# Altium schematic symbol library RPSLib_Transistors.SchLib: 17 symbols
Pins are listed as number, name and electrical type; pins without a type are passive.

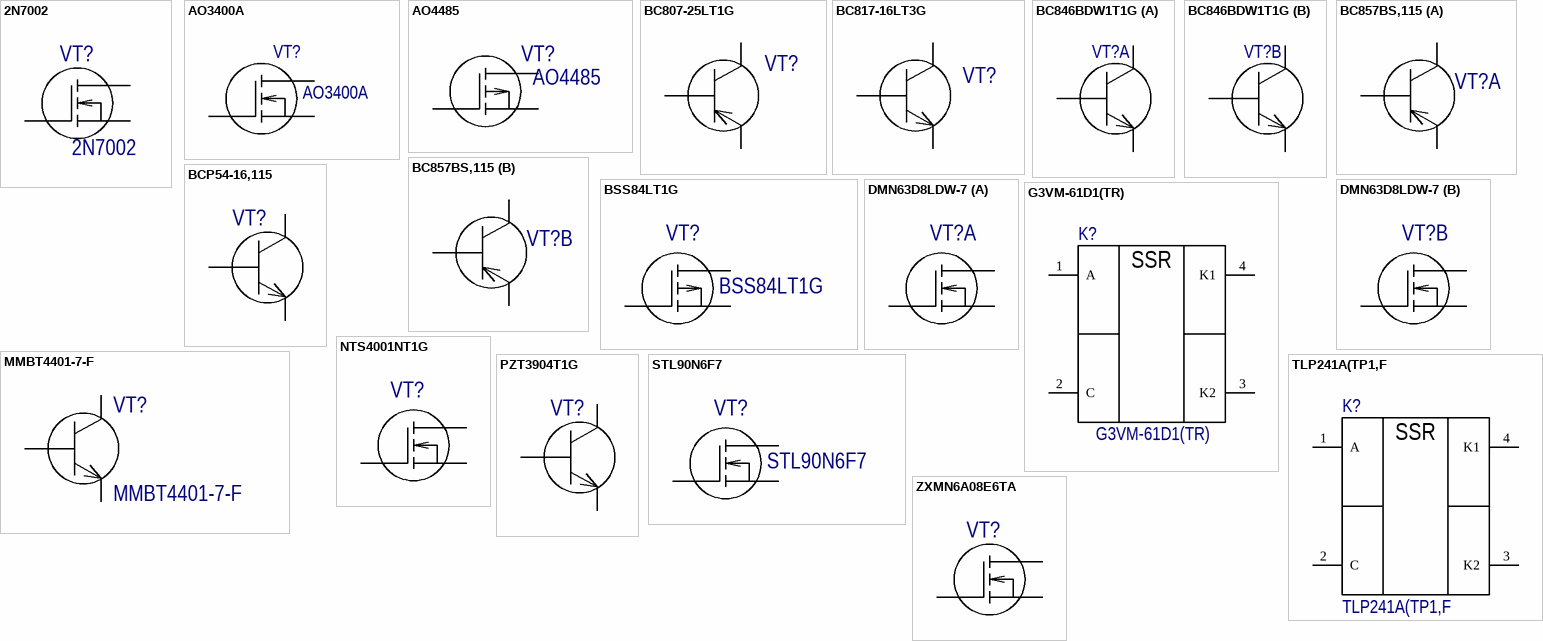
[diagram p0: symbols 2N7002 to ZXMN6A08E6TA]

## 2N7002
designator VT?
2N7002 Series N-Channel 60 V 5 Ohm 0.83 W TrenchMOS FET - SOT-23-3; Manufacturer: Nexperia USA; Manufacturer Part Number: 2N7002,215; Supplier 1: Digi-Key; RoHS: No; Category: MOSFETs; Stock 1: 708507; Pricing 1: 1=0,15000, 10=0,10600, 25=0,10200, 100=0,05750, 500=0,04514, 1000=0,03135 (USD); ComponentLink1URL: https://assets.nexperia.com/documents/data-sheet/2N7002.pdf?src-supplier=Digi-Key; ComponentLink1Description: https://assets.nexperia.com/documents/data-sheet/2N7002.pdf?src-supplier=Digi-Key; ComponentLink2URL: http://www.farnell.com/datasheets/1499179.pdf?src-supplier=Newark; ComponentLink2Description: http://www.farnell.com/datasheets/1499179.pdf?src-supplier=Newark; Supplier Part Number 1: 1727-2764-1-ND
footprint SOT95P232X100-3N (SOT23, 3-Leads, Body 2.92x2.32mm, Pitch 0.95mm, IPC Medium Density)
pins: 1 G, 2 S, 3 D
1 alternate drawing of the same symbol

## AO3400A
designator VT?
MOSFET N-CH 30V 5.7A SOT23-3L; Manufacturer: Alpha & Omega Semiconductor; Rds On Max: 26.5mR; Input Capacitance: 630pF; Max Power Dissipation: 1.4W; Number of Elements: 1; Gate to Source Voltage (Vgs): 12V; Supplier 1: Digi-Key; Manufacturer Part Number: AO3400A; RoHS: Yes; Category: MOSFETs; Stock 1: 144528; Pricing 1: 1=0,48000, 10=0,36200, 100=0,22570, 500=0,15444, 1000=0,11880 (USD); Mount: Surface Mount; Case/Package: TO-236-3; Number of Pins: 3; Min Operating Temperature: -55°C; Max Operating Temperature: 150°C; Packaging: Tape and Reel; Drain to Source Voltage (Vdss): 30V; Continuous Drain Current (ID): 5.7A; Power Dissipation: 1.4W; Series: -; Radiation Hardening: No; Lead Free: Lead Free; RoHS Compliant: Yes; ComponentLink1URL: https://datasheet.ciiva.com/940/ao3400a-940739.pdf?src-supplier=Digi-Key; ComponentLink1Description: https://datasheet.ciiva.com/940/ao3400a-940739.pdf?src-supplier=Digi-Key; ComponentLink2URL: https://datasheet.ciiva.com/26906/getdatasheetpartid-64438-26906526.pdf?src-supplier=Verical; ComponentLink2Description: https://datasheet.ciiva.com/26906/getdatasheetpartid-64438-26906526.pdf?src-supplier=Verical; ComponentLink3URL: https://datasheet.ciiva.com/940/ao3400a-940740.pdf?src-supplier=Digi-Key; ComponentLink3Description: https://datasheet.ciiva.com/940/ao3400a-940740.pdf?src-supplier=Digi-Key; ComponentLink4URL: https://datasheet.ciiva.com/940/ao3400a-940741.pdf?src-supplier=Digi-Key; ComponentLink4Description: https://datasheet.ciiva.com/940/ao3400a-940741.pdf?src-supplier=Digi-Key; Supplier Part Number 1: 785-1000-1-ND
footprint SOT95P232X100-3N (SOT23, 3-Leads, Body 2.92x2.32mm, Pitch 0.95mm, IPC Medium Density)
pins: 1 G, 2 S, 3 D
1 alternate drawing of the same symbol

## AO4485
designator VT?
MOSFET P-CH 40V 10A 8SOIC; Manufacturer: Alpha & Omega Semiconductor; Rds On Max: 15mR; Input Capacitance: 3nF; Max Power Dissipation: 1.7W; Gate to Source Voltage (Vgs): 20V; Number of Elements: 1; Supplier 1: LCSC; Manufacturer Part Number: AO4485; RoHS: Yes; Category: MOSFETs; Mount: Surface Mount; Case/Package: SOIC; Number of Pins: 8; Min Operating Temperature: -55°C; Max Operating Temperature: 150°C; Drain to Source Voltage (Vdss): 40V; Continuous Drain Current (ID): 10A; Packaging: Cut Tape; Package Quantity: 1; Power Dissipation: 1.7W; Radiation Hardening: No; RoHS Compliant: Yes; Lead Free: Lead Free; ComponentLink1URL: https://datasheet.ciiva.com/6367/ao4485-6367585.pdf?src-supplier=Digi-Key; ComponentLink1Description: https://datasheet.ciiva.com/6367/ao4485-6367585.pdf?src-supplier=Digi-Key; ComponentLink2URL: https://datasheet.ciiva.com/26861/getdatasheetpartid-417133-26861485.pdf?src-supplier=Verical; ComponentLink2Description: https://datasheet.ciiva.com/26861/getdatasheetpartid-417133-26861485.pdf?src-supplier=Verical; Supplier Part Number 1: C51499
footprint SOIC127P600X175-AO4485 (SOIC, 8-Leads, Body 4.90x3.90mm, Pitch 1.27mm, IPC Medium Density)
pins: D, G, S
1 alternate drawing of the same symbol

## BC807-25LT1G
designator VT?  (value not drawn)
ON SEMICONDUCTOR - BC807-25LT1G - Bipolar (BJT) Single Transistor, PNP, -45 V, 100 MHz, 225 mW, -500 mA, 160 hFE; Collector Emitter Voltage (VCEO): 45V; Max Power Dissipation: 300mW; Max Collector Current: 500mA; Emitter Base Voltage (VEBO): 5V; Collector Base Voltage (VCBO): 50V; Transition Frequency: 100MHz; Number of Elements: 1; hFE Min: 160; Collector Emitter Saturation Voltage: -700mV; Collector-emitter Voltage-Max: 700mV; Type: General Purpose; Supplier 1: Digi-Key; Manufacturer: ON Semiconductor; Manufacturer Part Number: BC807-25LT1G; RoHS: Yes; Category: BJTs; Stock 1: 9099; Pricing 1: 1=0,15000, 10=0,10700, 25=0,10240, 100=0,05780, 500=0,04536, 1000=0,03150 (USD); Case/Package: SOT-23-3; Number of Pins: 3; Contact Plating: Tin,Matte; Min Operating Temperature: -55°C; Max Operating Temperature: 150°C; Polarity: PNP; Packaging: Tape and Reel; Package Quantity: 1; Collector Emitter Breakdown Voltage: 45V; Element Configuration: Single; Power Dissipation: 300mW; Gain Bandwidth Product: 100MHz; Frequency: 100MHz; Max Breakdown Voltage: 45V; Series: -; Max Frequency: 100MHz; Moisture Sensitivity Level: 1; Length: 2.9mm; Width: 1.3mm; Height: 0.94mm; Radiation Hardening: No; RoHS Compliant: Yes; Lead Free: Lead Free; REACH SVHC: No SVHC; Halogen Free: Halogen Free; ComponentLink1URL: https://datasheet.ciiva.com/15138/getdatasheetpartid-32011-15138578.pdf?src-supplier=Verical; ComponentLink1Description: https://datasheet.ciiva.com/15138/getdatasheetpartid-32011-15138578.pdf?src-supplier=Verical; ComponentLink2URL: https://datasheet.ciiva.com/11197/bc807-16lt1-d-11197830.pdf?src-supplier=Avnet; ComponentLink2Description: https://datasheet.ciiva.com/11197/bc807-16lt1-d-11197830.pdf?src-supplier=Avnet; ComponentLink3URL: https://datasheet.ciiva.com/16205/bc807-16lt1-d-16205062.pdf?src-supplier=Future+Electronics; ComponentLink3Description: https://datasheet.ciiva.com/16205/bc807-16lt1-d-16205062.pdf?src-supplier=Future+Electronics; ComponentLink4URL: https://datasheet.ciiva.com/976/bc807-16lt1-d-976425.pdf?src-supplier=Digi-Key; ComponentLink4Description: https://datasheet.ciiva.com/976/bc807-16lt1-d-976425.pdf?src-supplier=Digi-Key; ComponentLink5URL: https://datasheet.ciiva.com/7972/bc807-16lt1-d-7972185.pdf?src-supplier=Element14; ComponentLink5Description: https://datasheet.ciiva.com/7972/bc807-16lt1-d-7972185.pdf?src-supplier=Element14; ComponentLink6URL: https://datasheet.ciiva.com/976/bc807-16lt1-d-976426.pdf?src-supplier=Digi-Key; ComponentLink6Description: https://datasheet.ciiva.com/976/bc807-16lt1-d-976426.pdf?src-supplier=Digi-Key; ComponentLink7URL: https://datasheet.ciiva.com/976/bc807-16lt1-d-976427.pdf?src-supplier=Digi-Key; ComponentLink7Description: https://datasheet.ciiva.com/976/bc807-16lt1-d-976427.pdf?src-supplier=Digi-Key; ComponentLink8URL: https://datasheet.ciiva.com/5720/bc807-16lt1-d-5720171.pdf?src-supplier=Farnell; ComponentLink8Description: https://datasheet.ciiva.com/5720/bc807-16lt1-d-5720171.pdf?src-supplier=Farnell; ComponentLink9URL: https://datasheet.ciiva.com/11197/bc807-16lt1-d-11197499.pdf?src-supplier=Avnet; ComponentLink9Description: https://datasheet.ciiva.com/11197/bc807-16lt1-d-11197499.pdf?src-supplier=Avnet; ComponentLink10URL: https://datasheet.ciiva.com/16478/bc807-16lt1-d-16478907.pdf?src-supplier=Avnet+Asia; ComponentLink10Description: https://datasheet.ciiva.com/16478/bc807-16lt1-d-16478907.pdf?src-supplier=Avnet+Asia; ComponentLink11URL: https://datasheet.ciiva.com/25917/bc807-16lt1-d-25917180.pdf?src-supplier=Avnet+Europe; ComponentLink11Description: https://datasheet.ciiva.com/25917/bc807-16lt1-d-25917180.pdf?src-supplier=Avnet+Europe; ComponentLink12URL: https://datasheet.ciiva.com/4722/bc807-16lt1-d-106678-4722830.pdf?src-supplier=Mouser; ComponentLink12Description: https://datasheet.ciiva.com/4722/bc807-16lt1-d-106678-4722830.pdf?src-supplier=Mouser; Supplier Part Number 1: BC807-25LT1GOSCT-ND
footprint SOT95P232X100-3N (SOT23, 3-Leads, Body 2.92x2.32mm, Pitch 0.95mm, IPC Medium Density)
pins: 1 B, 2 E, 3 C

## BC817-16LT3G
designator VT?  (value not drawn)
TRANS NPN 45V 0.5A SOT-23; Manufacturer: ON Semiconductor; hFE Min: 100; Max Power Dissipation: 300mW; Element Configuration: Single; Max Collector Current: 500mA; Transition Frequency: 100MHz; Collector Base Voltage (VCBO): 50V; Emitter Base Voltage (VEBO): 5V; Collector Emitter Saturation Voltage: 700mV; Number of Elements: 1; Supplier 1: Digi-Key; Manufacturer Part Number: BC817-16LT3G; RoHS: Yes; Category: BJTs; Stock 1: 34572; Pricing 1: 1=0,14000, 10=0,13000, 25=0,12360, 100=0,05450, 250=0,05228, 500=0,04276, 1000=0,02970, 2500=0,02594, 5000=0,02327 (USD); Case/Package: SOT-23-3; Number of Pins: 3; Contact Plating: Tin,Matte; Min Operating Temperature: -55°C; Max Operating Temperature: 150°C; Package Quantity: 10000; Collector Emitter Voltage (VCEO): 45V; Collector Emitter Breakdown Voltage: 45V; Polarity: NPN; Packaging: Tape and Reel; Power Dissipation: 300mW; Frequency: 100MHz; Gain Bandwidth Product: 100MHz; Max Breakdown Voltage: 45V; Radiation Hardening: No; Lead Free: Lead Free; Halogen Free: Halogen Free; ComponentLink1URL: https://datasheet.ciiva.com/15139/getdatasheetpartid-84401-15139109.pdf?src-supplier=Verical; ComponentLink1Description: https://datasheet.ciiva.com/15139/getdatasheetpartid-84401-15139109.pdf?src-supplier=Verical; ComponentLink2URL: https://datasheet.ciiva.com/26115/bc817-16lt1-d-26115598.pdf?src-supplier=Avnet+Europe; ComponentLink2Description: https://datasheet.ciiva.com/26115/bc817-16lt1-d-26115598.pdf?src-supplier=Avnet+Europe; ComponentLink3URL: https://datasheet.ciiva.com/980/bc817-16lt1-d-980715.pdf?src-supplier=Digi-Key; ComponentLink3Description: https://datasheet.ciiva.com/980/bc817-16lt1-d-980715.pdf?src-supplier=Digi-Key; ComponentLink4URL: https://datasheet.ciiva.com/11204/bc817-16lt1-d-11204335.pdf?src-supplier=Avnet; ComponentLink4Description: https://datasheet.ciiva.com/11204/bc817-16lt1-d-11204335.pdf?src-supplier=Avnet; Supplier Part Number 1: BC817-16LT3GOSCT-ND
footprint SOT95P232X100-3N (SOT23, 3-Leads, Body 2.92x2.32mm, Pitch 0.95mm, IPC Medium Density)
pins: 1 B, 2 E, 3 C

## BC846BDW1T1G
designator VT?  (value not drawn)
ON Semi BC846BDW1T1G Dual NPN Bipolar Transistor; 0.1 A; 65 V; 6-Pin SC-88; Manufacturer: ON Semiconductor; Collector Emitter Voltage (VCEO): 65V; Max Power Dissipation: 380mW; Max Collector Current: 100mA; Collector Base Voltage (VCBO): 80V; Frequency: 100MHz; Number of Elements: 2; hFE Min: 200; Emitter Base Voltage (VEBO): 6V; Collector Emitter Saturation Voltage: 600mV; Supplier 1: Digi-Key; Manufacturer Part Number: BC846BDW1T1G; RoHS: Yes; Category: BJTs; Stock 1: 149171; Pricing 1: 1=0,29000, 10=0,23700, 100=0,12570, 500=0,08268, 1000=0,05622 (USD); Case/Package: SOT-363-6; Number of Pins: 6; Contact Plating: Tin,Matte; Min Operating Temperature: -55°C; Max Operating Temperature: 150°C; Package Quantity: 1; Packaging: Tape and Reel; Transition Frequency: 100MHz; Collector Emitter Breakdown Voltage: 65V; Polarity: NPN; Max Breakdown Voltage: 65V; Power Dissipation: 380mW; Element Configuration: Dual; Gain Bandwidth Product: 100MHz; Max Frequency: 100MHz; Voltage Rating (DC): 65V; Current Rating: 100mA; Length: 2mm; Width: 1.25mm; Height: 0.9mm; Radiation Hardening: No; REACH SVHC: No SVHC; Lead Free: Lead Free; Halogen Free: Halogen Free; ComponentLink1URL: https://datasheet.ciiva.com/968/bc846bdw1t1-d-968800.pdf?src-supplier=Digi-Key; ComponentLink1Description: https://datasheet.ciiva.com/968/bc846bdw1t1-d-968800.pdf?src-supplier=Digi-Key; ComponentLink2URL: https://datasheet.ciiva.com/15138/getdatasheetpartid-53817-15138804.pdf?src-supplier=Verical; ComponentLink2Description: https://datasheet.ciiva.com/15138/getdatasheetpartid-53817-15138804.pdf?src-supplier=Verical; ComponentLink3URL: https://datasheet.ciiva.com/17064/0900766b80dabb08-17064908.pdf?src-supplier=Allied+Electronics; ComponentLink3Description: https://datasheet.ciiva.com/17064/0900766b80dabb08-17064908.pdf?src-supplier=Allied+Electronics; ComponentLink4URL: https://datasheet.ciiva.com/968/bc846bdw1t1-d-968801.pdf?src-supplier=Digi-Key; ComponentLink4Description: https://datasheet.ciiva.com/968/bc846bdw1t1-d-968801.pdf?src-supplier=Digi-Key; ComponentLink5URL: https://datasheet.ciiva.com/11197/bc846bdw1t1-d-11197781.pdf?src-supplier=Avnet; ComponentLink5Description: https://datasheet.ciiva.com/11197/bc846bdw1t1-d-11197781.pdf?src-supplier=Avnet; ComponentLink6URL: https://datasheet.ciiva.com/1193/bc846bdw1t1-d-1193751.pdf?src-supplier=Element14; ComponentLink6Description: https://datasheet.ciiva.com/1193/bc846bdw1t1-d-1193751.pdf?src-supplier=Element14; ComponentLink7URL: https://datasheet.ciiva.com/22653/1708249-22653899.pdf?src-supplier=Element14; ComponentLink7Description: https://datasheet.ciiva.com/22653/1708249-22653899.pdf?src-supplier=Element14; ComponentLink8URL: https://datasheet.ciiva.com/16418/bc846bdw1t1-d-16418524.pdf?src-supplier=Future+Electronics; ComponentLink8Description: https://datasheet.ciiva.com/16418/bc846bdw1t1-d-16418524.pdf?src-supplier=Future+Electronics; ComponentLink9URL: https://datasheet.ciiva.com/43505/2012179-43505580.pdf?src-supplier=Jameco; ComponentLink9Description: https://datasheet.ciiva.com/43505/2012179-43505580.pdf?src-supplier=Jameco; ComponentLink10URL: https://datasheet.ciiva.com/968/bc846bdw1t1-d-968799.pdf?src-supplier=Digi-Key; ComponentLink10Description: https://datasheet.ciiva.com/968/bc846bdw1t1-d-968799.pdf?src-supplier=Digi-Key; Supplier Part Number 1: BC846BDW1T1GOSCT-ND
footprint SOT65P210X110-6N (SOT23, 6-Leads, Body 2,00x2,10mm, Pitch 0,65mm, IPC Medium Density)
part A pins: 3 C1, 4 E1, 5 B1
part B pins: 1 E2, 2 B2, 6 C2

## BC857BS,115
designator VT?, comment BC857BS  (value not drawn)
NEXPERIA - BC857BS,115 - TRANSISTOR, DUAL, PNP, SC-88; Collector Emitter Voltage (VCEO): 45V; Supplier 1: Digi-Key; Manufacturer: NEXPERIA; Manufacturer Part Number: BC857BS,115; RoHS: No; Category: BJTs; Stock 1: 74846; Pricing 1: 1=0,19000, 10=0,13400, 25=0,13320, 100=0,06520, 500=0,05438, 1000=0,03779 (USD); Case/Package: SC; Polarity: PNP; Packaging: Tape and Reel; REACH SVHC: No SVHC; Lead Free: Lead Free; ComponentLink1URL: http://www.farnell.com/datasheets/708560.pdf?src-supplier=Farnell; ComponentLink1Description: http://www.farnell.com/datasheets/708560.pdf?src-supplier=Farnell; Supplier Part Number 1: 1727-4868-1-ND
footprint SOT65P210X110-6N (SOT23, 6-Leads, Body 2,00x2,10mm, Pitch 0,65mm, IPC Medium Density)
part A pins: 1 E1, 2 B1, 6 C1
part B pins: 3 C2, 4 E2, 5 B2

## BCP54-16,115
designator VT?  (value not drawn)
NEXPERIA - BCP54-16,115 - TRANSISTOR, NPN, SOT-223; Supplier 1: Digi-Key; Manufacturer: Nexperia; Manufacturer Part Number: BCP54-16,115; RoHS: No; Stock 1: 4494; Pricing 1: 1=0,45000, 10=0,33600, 25=0,30240, 100=0,15950, 250=0,15784, 500=0,14136 (USD); ComponentLink1URL: http://www.farnell.com/datasheets/1499221.pdf?src-supplier=Farnell; ComponentLink1Description: http://www.farnell.com/datasheets/1499221.pdf?src-supplier=Farnell; Supplier Part Number 1: 1727-4314-1-ND
footprint SOT230P700X180-4N PZT3904 (SOT223, 4-Leads, Body 6,50x7,00mm (avg), Pitch 2,30mm, IPC Medium Density)
pins: 1 B, 2 C, 3 E

## BSS84LT1G
designator VT?
On a Reel of 3000, P-Channel MOSFET, 130 mA, 50 V, 3-Pin SOT-23 ON Semiconductor BSS84LT1G; Continuous Drain Current (ID): 130mA; Gate to Source Voltage (Vgs): 20V; Input Capacitance: 30pF; Max Power Dissipation: 225mW; Rds On Max: 10R; Drain to Source Voltage (Vdss): 50V; Turn-Off Delay Time: 16ns; Turn-On Delay Time: 3.6ns; Number of Elements: 1; Rise Time: 1ns; Element Configuration: Single; Current Rating: -130mA; Voltage Rating (DC): -50V; Threshold Voltage: -2V; Nominal Vgs: 2V; Supplier 1: Digi-Key; Manufacturer: ON Semiconductor; Manufacturer Part Number: BSS84LT1G; RoHS: Yes; Category: MOSFETs; Stock 1: 372844; Pricing 1: 1=0,28000, 10=0,19500, 25=0,19440, 100=0,09500, 500=0,07928, 1000=0,05508 (USD); Case/Package: SOT-23-3; Number of Pins: 3; Contact Plating: Tin,Matte; Min Operating Temperature: -55°C; Max Operating Temperature: 150°C; Packaging: Tape and Reel; Power Dissipation: 225mW; Package Quantity: 1; Drain to Source Resistance: 10R; Drain to Source Breakdown Voltage: 50V; Fall Time: 1ns; On-State Resistance: 10R; Length: 0.119inch; Width: 0.055inch; Height: 0.04inch; Radiation Hardening: No; Lead Free: Lead Free; REACH SVHC: No SVHC; Halogen Free: Halogen Free; ComponentLink1URL: https://datasheet.ciiva.com/1190/86068-1190258.pdf?src-supplier=Element14; ComponentLink1Description: https://datasheet.ciiva.com/1190/86068-1190258.pdf?src-supplier=Element14; ComponentLink2URL: https://datasheet.ciiva.com/1255/1747989-1255091.pdf?src-supplier=Newark; ComponentLink2Description: https://datasheet.ciiva.com/1255/1747989-1255091.pdf?src-supplier=Newark; ComponentLink3URL: https://datasheet.ciiva.com/15198/getdatasheetpartid-86905-15198910.pdf?src-supplier=Verical; ComponentLink3Description: https://datasheet.ciiva.com/15198/getdatasheetpartid-86905-15198910.pdf?src-supplier=Verical; ComponentLink4URL: https://datasheet.ciiva.com/1190/86068-1190259.pdf?src-supplier=Element14; ComponentLink4Description: https://datasheet.ciiva.com/1190/86068-1190259.pdf?src-supplier=Element14; ComponentLink5URL: https://datasheet.ciiva.com/27054/1920992-27054773.pdf?src-supplier=Jameco; ComponentLink5Description: https://datasheet.ciiva.com/27054/1920992-27054773.pdf?src-supplier=Jameco; ComponentLink6URL: https://datasheet.ciiva.com/26146/bss84lt1-d-26146231.pdf?src-supplier=Avnet+Europe; ComponentLink6Description: https://datasheet.ciiva.com/26146/bss84lt1-d-26146231.pdf?src-supplier=Avnet+Europe; ComponentLink7URL: https://datasheet.ciiva.com/16335/bss84lt1-d-16335336.pdf?src-supplier=Future+Electronics; ComponentLink7Description: https://datasheet.ciiva.com/16335/bss84lt1-d-16335336.pdf?src-supplier=Future+Electronics; ComponentLink8URL: https://datasheet.ciiva.com/6380/bss84lt1-d-6380649.pdf?src-supplier=Digi-Key; ComponentLink8Description: https://datasheet.ciiva.com/6380/bss84lt1-d-6380649.pdf?src-supplier=Digi-Key; ComponentLink9URL: https://datasheet.ciiva.com/11168/bss84lt1-d-11168266.pdf?src-supplier=Avnet; ComponentLink9Description: https://datasheet.ciiva.com/11168/bss84lt1-d-11168266.pdf?src-supplier=Avnet; ComponentLink10URL: https://datasheet.ciiva.com/6380/bss84lt1-d-6380651.pdf?src-supplier=Digi-Key; ComponentLink10Description: https://datasheet.ciiva.com/6380/bss84lt1-d-6380651.pdf?src-supplier=Digi-Key; ComponentLink11URL: https://datasheet.ciiva.com/6380/bss84lt1-d-6380652.pdf?src-supplier=Digi-Key; ComponentLink11Description: https://datasheet.ciiva.com/6380/bss84lt1-d-6380652.pdf?src-supplier=Digi-Key; ComponentLink12URL: https://datasheet.ciiva.com/8115/bss84lt1-d-8115421.pdf?src-supplier=Avnet; ComponentLink12Description: https://datasheet.ciiva.com/8115/bss84lt1-d-8115421.pdf?src-supplier=Avnet; Supplier Part Number 1: BSS84LT1GOSCT-ND
footprint SOT95P232X100-3N (SOT23, 3-Leads, Body 2.92x2.32mm, Pitch 0.95mm, IPC Medium Density)
pins: 1 G, 2 S, 3 D
1 alternate drawing of the same symbol

## DMN63D8LDW-7
designator VT?  (value not drawn)
MOSFET 2N-CH 30V 0.22A SOT363; Manufacturer: Diodes; Rise Time: 3.2ns; Rds On Max: 2.8R; Input Capacitance: 22pF; Continuous Drain Current (ID): 260mA; Max Power Dissipation: 300mW; Turn-On Delay Time: 3.3ns; Turn-Off Delay Time: 12ns; Fall Time: 6.3ns; Number of Elements: 2; Power Dissipation: 400mW; Threshold Voltage: 1.5V; Gate to Source Voltage (Vgs): 20V; Element Configuration: Dual; FET Type: 2 N-Channel; Supplier 1: Digi-Key; Manufacturer Part Number: DMN63D8LDW-7; RoHS: Yes; Category: MOSFETs; Stock 1: 258650; Pricing 1: 1=0,31000, 10=0,25000, 100=0,10250, 500=0,08552, 1000=0,05942 (USD); Mount: Surface Mount; Case/Package: SOT-363; Number of Pins: 6; Weight: 0.000212oz; Contact Plating: Tin,Matte; Min Operating Temperature: -55°C; Max Operating Temperature: 150°C; Package Quantity: 3000; Packaging: Tape and Reel; Drain to Source Voltage (Vdss): 30V; Drain to Source Resistance: 2.8R; Number of Channels: 2; Drain to Source Breakdown Voltage: 30V; Length: 2.2mm; Height: 1mm; Width: 1.35mm; Radiation Hardening: No; REACH SVHC: No SVHC; Lead Free: Lead Free; ComponentLink1URL: https://datasheet.ciiva.com/30023/dmn63d8ldw-30023824.pdf?src-supplier=Avnet; ComponentLink1Description: https://datasheet.ciiva.com/30023/dmn63d8ldw-30023824.pdf?src-supplier=Avnet; ComponentLink2URL: https://datasheet.ciiva.com/6384/dmn63d8ldw-6384534.pdf?src-supplier=Digi-Key; ComponentLink2Description: https://datasheet.ciiva.com/6384/dmn63d8ldw-6384534.pdf?src-supplier=Digi-Key; Supplier Part Number 1: DMN63D8LDW-7CT-ND
footprint SOT65P210X100-6N (SOT23, 6-Leads, Body 2,00x2,10mm, Pitch 0,65mm, IPC Medium Density)
part A pins: 1 S1, 2 G1, 6 D1
part B pins: 3 D2, 4 S2, 5 G2
1 alternate drawing of the same symbol

## G3VM-61D1(TR)
designator K?
RELAY SSR SPST 60V 500MA 4SMD; Manufacturer: Omron; Supplier 1: Digi-Key; Manufacturer Part Number: G3VM-61D1(TR); RoHS: Yes; Category: Solid State Relays; Pricing 1: 1=2,62000, 10=2,45800, 25=2,18480, 50=2,07540, 100=1,96620, 250=1,74772, 500=1,63848 (USD); ComponentLink1URL: https://datasheet.ciiva.com/2422/g3vm-61a1-d1-1210-2422488.pdf?src-supplier=Digi-Key; ComponentLink1Description: https://datasheet.ciiva.com/2422/g3vm-61a1-d1-1210-2422488.pdf?src-supplier=Digi-Key; Supplier Part Number 1: Z5359CT-ND; Supplier 2: LCSC; Supplier Part Number 2: C469131
footprint DIP-4 SSR (Footprint not found)
pins: 1 A, 2 C, 3 K2, 4 K1
text: SSR

## MMBT4401-7-F
designator VT?
TRANS NPN 40V 0.6A SMD SOT23-3; Manufacturer: Diodes; Max Power Dissipation: 300mW; Max Collector Current: 600mA; Collector Base Voltage (VCBO): 60V; Frequency: 250MHz; hFE Min: 100; Number of Elements: 1; Emitter Base Voltage (VEBO): 6V; Collector Emitter Saturation Voltage: 750mV; Power Dissipation: 310mW; Element Configuration: Single; Supplier 1: Digi-Key; Manufacturer Part Number: MMBT4401-7-F; Stock 1: 416046; Pricing 1: 1=0.15, 10=0.134, 100=0.0729, 500=0.04486, 1000=0.03059 (USD); Mount: Surface Mount; Case/Package: SOT-23; Number of Pins: 3; Weight: 0.000282oz; Contact Plating: Matte,Tin; Min Operating Temperature: -55°C; Max Operating Temperature: 150°C; Collector Emitter Voltage (VCEO): 40V; Polarity: NPN; Packaging: Tape and Reel; Package Quantity: 3000; Transition Frequency: 250MHz; Collector Emitter Breakdown Voltage: 40V; Max Breakdown Voltage: 40V; Continuous Collector Current: 600mA; Max Frequency: 250MHz; Gain Bandwidth Product: 250MHz; Voltage Rating (DC): 40V; Length: 3.05mm; Height: 1mm; Width: 1.4mm; Radiation Hardening: No; REACH SVHC: No SVHC; Lead Free: Lead Free; Supplier Part Number 1: MMBT4401-FDICT-ND; РКД Наименование: *
footprint SOT95P232X100-3N (SOT23, 3-Leads, Body 2.92x2.32mm, Pitch 0.95mm, IPC Medium Density)
pins: 1 B, 2 E, 3 C

## NTS4001NT1G
designator VT?  (value not drawn)
MOSFET N-CH 30V 270MA SOT-323; Manufacturer: ON Semiconductor; Nominal Vgs: 1.2V; Input Capacitance: 33pF; Number of Elements: 1; Max Power Dissipation: 330mW; Rise Time: 23ns; Rds On Max: 1.5R; Turn-Off Delay Time: 94ns; Turn-On Delay Time: 17ns; Element Configuration: Single; Gate to Source Voltage (Vgs): 20V; On-State Resistance: 1R; Supplier 1: Digi-Key; Manufacturer Part Number: NTS4001NT1G; RoHS: Yes; Category: MOSFETs; Stock 1: 199118; Pricing 1: 1=0,39000, 10=0,31600, 100=0,12920, 500=0,10776, 1000=0,07487 (USD); Case/Package: SC; Number of Pins: 3; Contact Plating: Tin,Matte; Min Operating Temperature: -55°C; Max Operating Temperature: 150°C; Package Quantity: 3000; Packaging: Tape and Reel; Continuous Drain Current (ID): 270mA; Drain to Source Breakdown Voltage: 30V; Fall Time: 23ns; Power Dissipation: 330mW; Drain to Source Resistance: 1.5R; Threshold Voltage: 1.2V; Voltage Rating (DC): 30V; Current Rating: 270mA; Length: 2.2mm; Height: 0.9mm; Width: 1.35mm; Radiation Hardening: No; REACH SVHC: No SVHC; Lead Free: Lead Free; ComponentLink1URL: https://datasheet.ciiva.com/30479/0900766b81206072-30479665.pdf?src-supplier=RSComponents; ComponentLink1Description: https://datasheet.ciiva.com/30479/0900766b81206072-30479665.pdf?src-supplier=RSComponents; ComponentLink2URL: https://datasheet.ciiva.com/26145/nts4001n-d-26145698.pdf?src-supplier=Avnet+Europe; ComponentLink2Description: https://datasheet.ciiva.com/26145/nts4001n-d-26145698.pdf?src-supplier=Avnet+Europe; ComponentLink3URL: https://datasheet.ciiva.com/23868/86002-23868099.pdf?src-supplier=Newark; ComponentLink3Description: https://datasheet.ciiva.com/23868/86002-23868099.pdf?src-supplier=Newark; ComponentLink4URL: https://datasheet.ciiva.com/11168/nts4001n-d-11168198.pdf?src-supplier=Avnet; ComponentLink4Description: https://datasheet.ciiva.com/11168/nts4001n-d-11168198.pdf?src-supplier=Avnet; ComponentLink5URL: https://datasheet.ciiva.com/30479/0900766b81206072-30479659.pdf?src-supplier=RSComponents; ComponentLink5Description: https://datasheet.ciiva.com/30479/0900766b81206072-30479659.pdf?src-supplier=RSComponents; ComponentLink6URL: https://datasheet.ciiva.com/13060/nts4001n-d-98833-13060653.pdf?src-supplier=Mouser; ComponentLink6Description: https://datasheet.ciiva.com/13060/nts4001n-d-98833-13060653.pdf?src-supplier=Mouser; ComponentLink7URL: https://datasheet.ciiva.com/8059/86002-8059418.pdf?src-supplier=Element14; ComponentLink7Description: https://datasheet.ciiva.com/8059/86002-8059418.pdf?src-supplier=Element14; ComponentLink8URL: https://datasheet.ciiva.com/936/nts4001n-d-936827.pdf?src-supplier=Digi-Key; ComponentLink8Description: https://datasheet.ciiva.com/936/nts4001n-d-936827.pdf?src-supplier=Digi-Key; ComponentLink9URL: https://datasheet.ciiva.com/8059/86002-8059419.pdf?src-supplier=Element14; ComponentLink9Description: https://datasheet.ciiva.com/8059/86002-8059419.pdf?src-supplier=Element14; Supplier Part Number 1: NTS4001NT1GOSCT-ND
footprint SOT65P220X100-3N (SOT23, 3-Leads, Body 2,00x2,20mm, Pitch 0,65mm, IPC Medium Density)
pins: 1 G, 2 S, 3 D
1 alternate drawing of the same symbol

## PZT3904T1G
designator VT?  (value not drawn)
Trans GP BJT NPN 40V 0.2A Automotive 4-Pin(3+Tab) SOT-223 T/R; Manufacturer: ON Semiconductor; Max Power Dissipation: 1.5W; Max Collector Current: 200mA; Transition Frequency: 300MHz; Collector Base Voltage (VCBO): 60V; Emitter Base Voltage (VEBO): 6V; Collector Emitter Saturation Voltage: 300mV; Element Configuration: Single; Number of Elements: 1; hFE Min: 40; Supplier 1: Digi-Key; Manufacturer Part Number: PZT3904T1G; RoHS: Yes; Category: BJTs; Stock 1: 11607; Pricing 1: 1=0,43000, 10=0,32300, 25=0,29080, 100=0,15340, 250=0,15184, 500=0,13596 (USD); Case/Package: SOT-223-4; Number of Pins: 4; Contact Plating: Tin,Matte; Min Operating Temperature: -55°C; Max Operating Temperature: 150°C; Collector Emitter Voltage (VCEO): 40V; Packaging: Tape and Reel; Package Quantity: 1; Polarity: NPN; Collector Emitter Breakdown Voltage: 40V; Gain Bandwidth Product: 300MHz; Voltage Rating (DC): 40V; Current Rating: 200mA; Frequency: 300MHz; Max Breakdown Voltage: 40V; Power Dissipation: 1.5W; Max Frequency: 300MHz; Length: 6.7mm; Height: 1.65mm; Width: 3.7mm; Radiation Hardening: No; Lead Free: Lead Free; REACH SVHC: No SVHC; ComponentLink1URL: https://datasheet.ciiva.com/976/pzt3904t1-d-976720.pdf?src-supplier=Digi-Key; ComponentLink1Description: https://datasheet.ciiva.com/976/pzt3904t1-d-976720.pdf?src-supplier=Digi-Key; ComponentLink2URL: https://datasheet.ciiva.com/11197/pzt3904t1-d-11197712.pdf?src-supplier=Avnet; ComponentLink2Description: https://datasheet.ciiva.com/11197/pzt3904t1-d-11197712.pdf?src-supplier=Avnet; ComponentLink3URL: https://datasheet.ciiva.com/30480/0900766b8127cb0f-30480711.pdf?src-supplier=RSComponents; ComponentLink3Description: https://datasheet.ciiva.com/30480/0900766b8127cb0f-30480711.pdf?src-supplier=RSComponents; ComponentLink4URL: https://datasheet.ciiva.com/15139/getdatasheetpartid-140997-15139465.pdf?src-supplier=Verical; ComponentLink4Description: https://datasheet.ciiva.com/15139/getdatasheetpartid-140997-15139465.pdf?src-supplier=Verical; ComponentLink5URL: https://datasheet.ciiva.com/25997/pzt3904t1-d-25997621.pdf?src-supplier=Avnet+Europe; ComponentLink5Description: https://datasheet.ciiva.com/25997/pzt3904t1-d-25997621.pdf?src-supplier=Avnet+Europe; ComponentLink6URL: https://datasheet.ciiva.com/11201/pzt3904t1-d-11201548.pdf?src-supplier=Avnet; ComponentLink6Description: https://datasheet.ciiva.com/11201/pzt3904t1-d-11201548.pdf?src-supplier=Avnet; ComponentLink7URL: https://datasheet.ciiva.com/16479/pzt3904t1-d-16479932.pdf?src-supplier=Future+Electronics; ComponentLink7Description: https://datasheet.ciiva.com/16479/pzt3904t1-d-16479932.pdf?src-supplier=Future+Electronics; ComponentLink8URL: https://datasheet.ciiva.com/4721/pzt3904t1-d-100851-4721821.pdf?src-supplier=Mouser; ComponentLink8Description: https://datasheet.ciiva.com/4721/pzt3904t1-d-100851-4721821.pdf?src-supplier=Mouser; Supplier Part Number 1: PZT3904T1GOSCT-ND
footprint SOT230P700X180-4N PZT3904 (SOT223, 4-Leads, Body 6,50x7,00mm (avg), Pitch 2,30mm, IPC Medium Density)
pins: 1 B, 2 C, 3 E

## STL90N6F7
designator VT?
MOSFET N-CH 60V 90A F7 8PWRFLAT; Manufacturer: STMicroelectronics; Rds On Max: 5.4mR; Input Capacitance: 1.6nF; Max Power Dissipation: 94W; Supplier 1: Digi-Key; Manufacturer Part Number: STL90N6F7; RoHS: Yes; Category: MOSFETs; Stock 1: 5700; Pricing 1: 1=1,43000, 10=1,27600, 100=0,90850, 500=0,77002, 1000=0,62727 (USD); Mount: Surface Mount; Packaging: Tape and Reel; Drain to Source Voltage (Vdss): 60V; Continuous Drain Current (ID): 90A; Lead Free: Lead Free; ComponentLink1URL: https://media.digikey.com/pdf/Data%20Sheets/ST%20Microelectronics%20PDFS/STL90N6F7.pdf?src-supplier=Digi-Key; ComponentLink1Description: https://media.digikey.com/pdf/Data%20Sheets/ST%20Microelectronics%20PDFS/STL90N6F7.pdf?src-supplier=Digi-Key; ComponentLink2URL: http://www.mouser.com/ds/2/389/stl90n6f7-956156.pdf?src-supplier=Mouser; ComponentLink2Description: http://www.mouser.com/ds/2/389/stl90n6f7-956156.pdf?src-supplier=Mouser; Supplier Part Number 1: 497-15913-1-ND
footprint PowerFlat6x6_MOSFET
pins: 1 G, 2 S, 3 D
1 alternate drawing of the same symbol

## TLP241A(TP1,F
designator K?
Relay SSR 25MA 1.4V Dc-in 2A 40V Dc-out 4-PIN DIP T/r; Manufacturer: Toshiba; Supplier 1: Digi-Key; Manufacturer Part Number: TLP241A(TP1,F; RoHS: Yes; Category: Solid State Relays; Stock 1: 1314; Pricing 1: 1=1,90000, 10=1,26800, 100=0,97560, 500=0,88192 (USD); Number of Pins: 4; RoHS Compliant: Yes; ComponentLink1URL: https://toshiba.semicon-storage.com/info/docget.jsp?did=14237&prodName=TLP241A&src-supplier=Digi-Key; ComponentLink1Description: https://toshiba.semicon-storage.com/info/docget.jsp?did=14237&prodName=TLP241A&src-supplier=Digi-Key; Supplier Part Number 1: TLP241A(TP1FCT-ND
footprint TLP241A(LF1) (DIP-4 Solid State relay)
pins: 1 A, 2 C, 3 K2, 4 K1
text: SSR

## ZXMN6A08E6TA
designator VT?  (value not drawn)
MOSFET N-CH 60V 2.8A SOT23-6; Manufacturer: Diodes Zetex; Rise Time: 2.1ns; Continuous Drain Current (ID): 3.5A; Gate to Source Voltage (Vgs): 20V; Turn-Off Delay Time: 12.3ns; Turn-On Delay Time: 2.6ns; Rds On Max: 80mR; Input Capacitance: 459pF; Number of Elements: 1; Max Power Dissipation: 1.1W; Drain to Source Resistance: 150mR; Power Dissipation: 1.7W; Element Configuration: Single; Current Rating: 2.5A; Supplier 1: Digi-Key; Manufacturer Part Number: ZXMN6A08E6TA; RoHS: Yes; Category: MOSFETs; Stock 1: 106764; Pricing 1: 1=0,82000, 10=0,72100, 25=0,67720, 100=0,49140, 250=0,47392, 500=0,41060, 1000=0,34944 (USD); Mount: Surface Mount; Case/Package: SOT-23-6; Number of Pins: 6; Weight: 0.000529oz; Min Operating Temperature: -55°C; Max Operating Temperature: 150°C; Fall Time: 2.1ns; Package Quantity: 3000; Packaging: Tape and Reel; Number of Channels: 1; Drain to Source Voltage (Vdss): 60V; On-State Resistance: 80mR; Voltage Rating (DC): 60V; Drain to Source Breakdown Voltage: 60V; Length: 3.1mm; Height: 1.3mm; Width: 1.8mm; Radiation Hardening: No; Lead Free: Lead Free; REACH SVHC: No SVHC; ComponentLink1URL: https://datasheet.ciiva.com/16993/0900766b80d2ef9f-16993634.pdf?src-supplier=Allied+Electronics; ComponentLink1Description: https://datasheet.ciiva.com/16993/0900766b80d2ef9f-16993634.pdf?src-supplier=Allied+Electronics; ComponentLink2URL: https://datasheet.ciiva.com/16386/zxmn6a08e6-16386230.pdf?src-supplier=Future+Electronics; ComponentLink2Description: https://datasheet.ciiva.com/16386/zxmn6a08e6-16386230.pdf?src-supplier=Future+Electronics; ComponentLink3URL: https://datasheet.ciiva.com/935/zxmn6a08e6-935608.pdf?src-supplier=Digi-Key; ComponentLink3Description: https://datasheet.ciiva.com/935/zxmn6a08e6-935608.pdf?src-supplier=Digi-Key; ComponentLink4URL: https://datasheet.ciiva.com/935/zxmn6a08e6-935609.pdf?src-supplier=Digi-Key; ComponentLink4Description: https://datasheet.ciiva.com/935/zxmn6a08e6-935609.pdf?src-supplier=Digi-Key; ComponentLink5URL: https://datasheet.ciiva.com/935/zxmn6a08e6-935610.pdf?src-supplier=Digi-Key; ComponentLink5Description: https://datasheet.ciiva.com/935/zxmn6a08e6-935610.pdf?src-supplier=Digi-Key; Supplier Part Number 1: ZXMN6A08E6CT-ND
footprint SOT95P280X110-6N_ZXMN6A08 (SOT23, 6-Leads, Body 2,90x2,80mm, Pitch 0,95mm, IPC Medium Density)
pins: D, G, S
1 alternate drawing of the same symbol